# Altium footprint library Molex_latch_sd_card.PcbLib: 1 footprints
Each footprint in its own frame and in the unit in brackets; x right, y up, seen from the top. Pads: shape width x height; smd on the part's side, far side on the other; paste and mask are expansions set on the pad; w line width, h text height; cw(c..) or ccw(c..) is an arc to the next point about the centre after c.
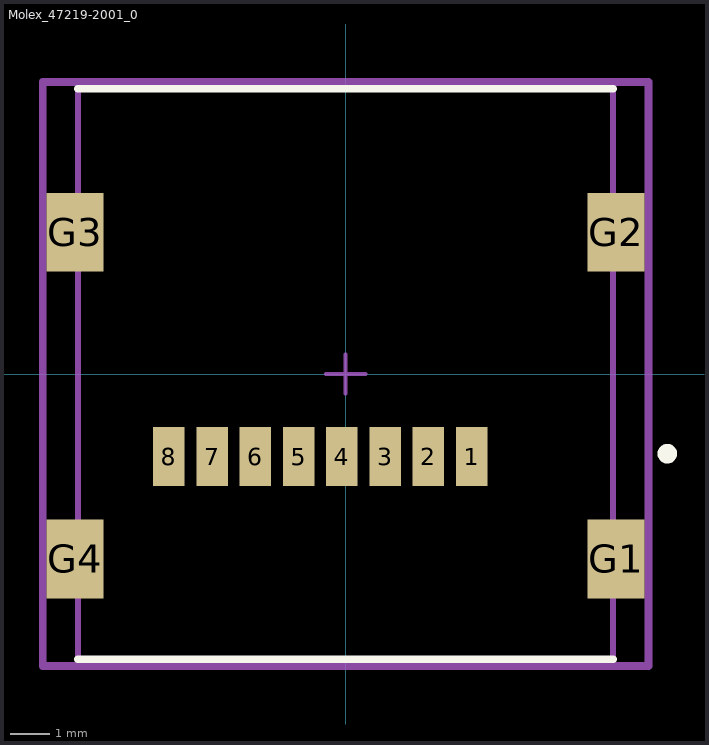
[diagram p0: the footprint, top view; thin cyan lines are the x and y axes]

## Molex_47219-2001_0 [mm]
pads (12):
  rect 0.8x1.5 smd paste+0 mask+0: 1(3.205,-2.1) 2(2.105,-2.1) 3(1.005,-2.1) 4(-0.095,-2.1) 5(-1.195,-2.1) 6(-2.295,-2.1) 7(-3.395,-2.1) 8(-4.495,-2.1)
  rect 1.45x2 smd paste+0 mask+0: G1(6.875,-4.7) G2(6.875,3.6) G3(-6.875,3.6) G4(-6.875,-4.7)
Top Overlay:
  circle w0.25: c8.175,-2.025 r0.125
  lines w0.2: -6.8,-7.25 6.8,-7.25 ; -6.8,7.25 6.8,7.25
Mechanical 10:
  lines w0.2: -7.7,-7.425 -7.7,7.425 7.7,7.425 7.7,-7.425 -7.7,-7.425
  text ".Designator" at 0,0 h1
Mechanical 12:
  lines w0.15: -6.8,-7.25 -6.8,7.25 6.8,7.25 6.8,-7.25 -6.8,-7.25
Mechanical 15:
  lines w0.1: -0.5,0 0.5,0 ; 0,-0.5 0,0.5
  lines w0.2: -7.7,-7.425 -7.7,7.425 7.7,7.425 7.7,-7.425 -7.7,-7.425
3D body "3dmodel.step": height 0.25, standoff 0, extent -7.7,-7.425 7.7,7.425